# Altium footprint library Project_Vega.PcbLib: 23 footprints (part 1 of 2)
Each footprint in its own frame and in the unit in brackets; x right, y up, seen from the top. Pads: shape width x height; smd on the part's side, far side on the other; paste and mask are expansions set on the pad; w line width, h text height; cw(c..) or ccw(c..) is an arc to the next point about the centre after c.
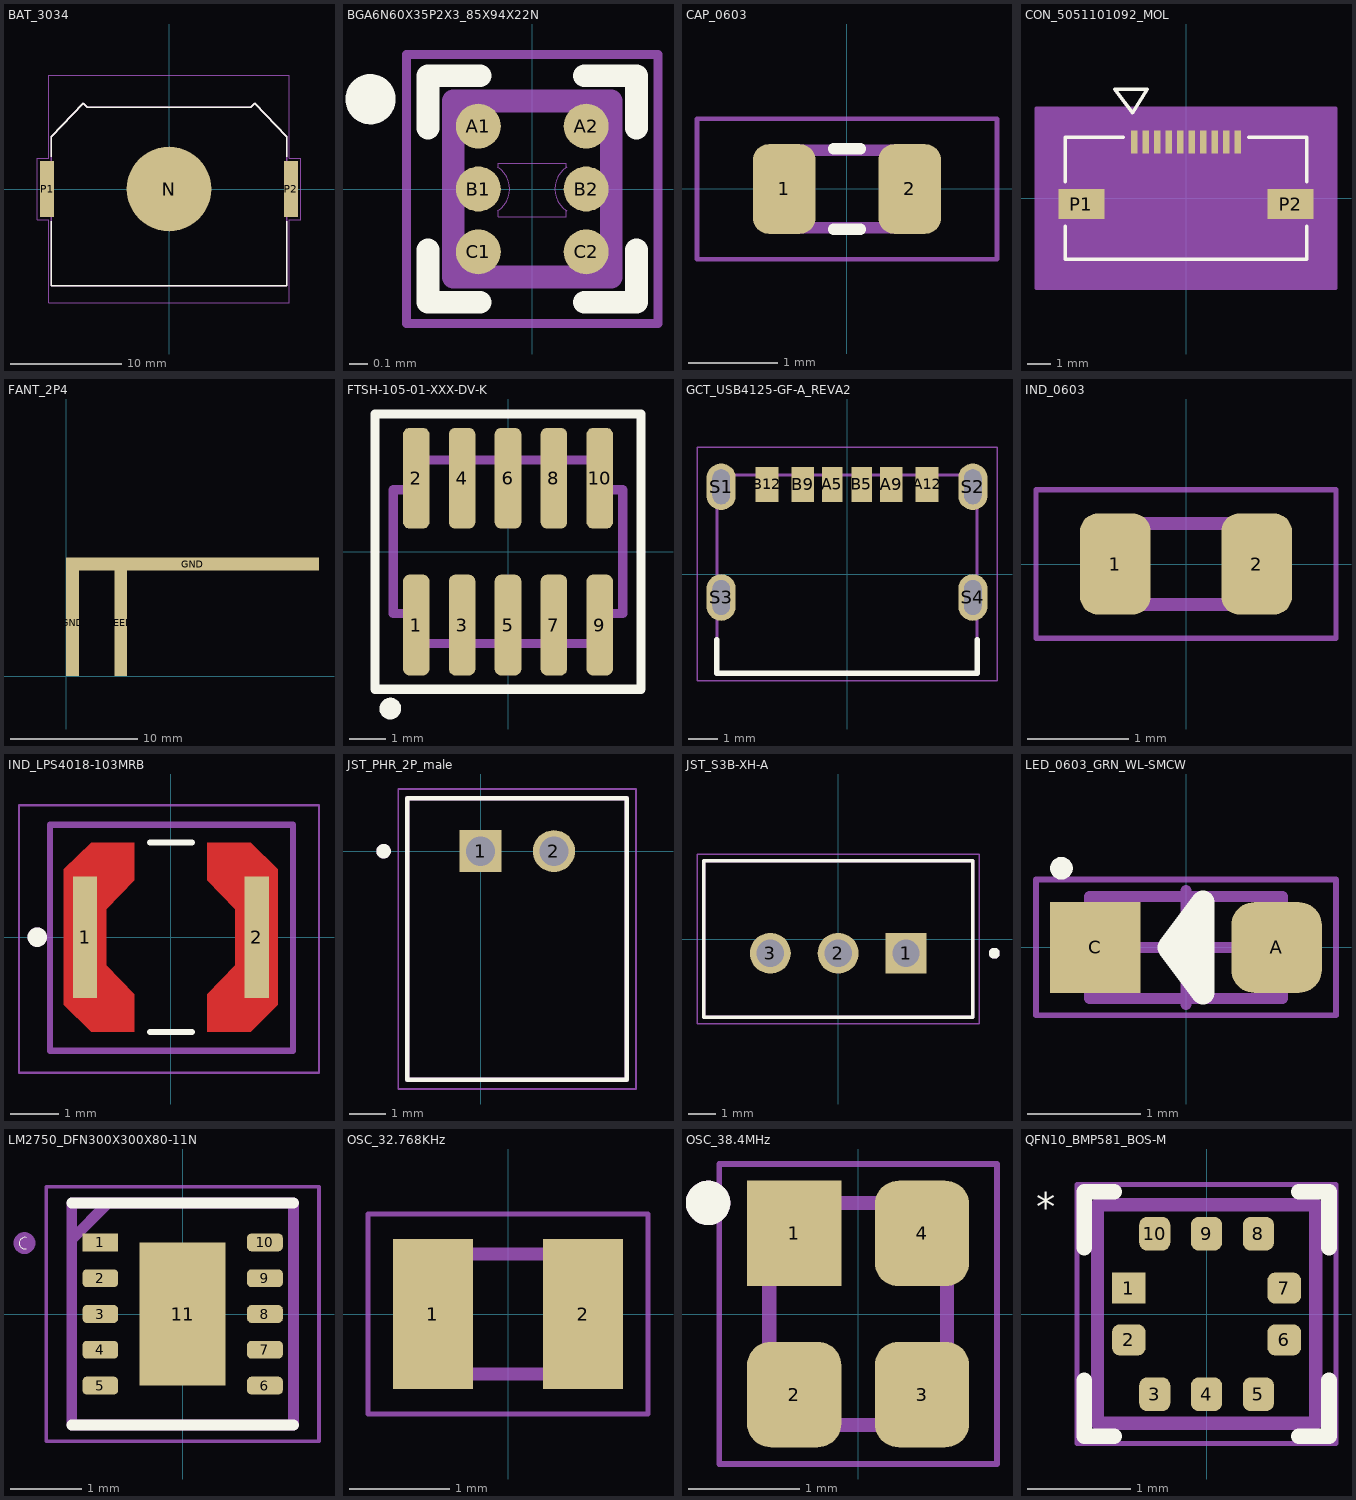
[diagram p0: the footprints below, top view; thin cyan lines are the x and y axes]

## BAT_3034 [mm]
height 4.31
pads (3):
  round 7.62 smd paste-3: N(0,0)
  rect 1.27x5.08 smd: P1(-10.985,0) P2(10.985,0)
Top Overlay:
  lines w0.127: -10.605,-2.9 -10.605,-8.729 10.605,-8.729 10.605,-2.9 ; -10.605,2.9 -10.605,4.723 -7.734,7.741 -7.366,7.391 7.366,7.391 7.734,7.741 10.605,4.723 10.605,2.9
Mechanical 13:
  lines w0.127: -10.605,-8.729 -10.605,4.723 -7.734,7.741 -7.366,7.391 7.366,7.391 7.734,7.741 10.605,4.723 10.605,-8.729 -10.605,-8.729
  text ".Designator" at -7.112,-6.122 h1.52
Mechanical 15:
  lines w0.05: -11.87,-2.79 -11.87,2.79 -10.855,2.79 -10.855,10.25 10.855,10.25 10.855,2.79 11.87,2.79 11.87,-2.79 10.855,-2.79 10.855,-10.25 -10.855,-10.25 -10.855,-2.79 -11.87,-2.79
3D body "3034--3DModel-STEP-630548.STEP": height 4.06, standoff 0, extent -11.62,-8.76 11.62,7.716

## BGA6N60X35P2X3_85X94X22N [mm]
pads (6):
  round 0.25 smd paste-1 mask-0.05: A1(-0.3,0.35) A2(0.3,0.35) B1(-0.3,0) B2(0.3,0) C1(-0.3,-0.35) C2(0.3,-0.35)
Top Overlay:
  circle w0.14: c-0.9,0.5 r0.07
  lines w0.127: -0.58,-0.34 -0.58,-0.63 -0.29,-0.63 ; -0.58,0.34 -0.58,0.63 -0.29,0.63 ; 0.29,-0.63 0.58,-0.63 0.58,-0.34 ; 0.29,0.63 0.58,0.63 0.58,0.34
Top Paste:
  drawing of 6 lines, arcs and shapes, not listed
Mechanical 1:
  lines w0: -0.192,-0.121 ccw(c-0.267,0) -0.192,0.121 ; -0.191,-0.12 -0.191,-0.154 0.191,-0.154 0.191,-0.12 ; -0.191,0.12 -0.191,0.144 0.191,0.144 0.191,0.12 ; 0.192,-0.121 cw(c0.267,0) 0.192,0.121
Mechanical 13:
  lines w0.127: -0.44,-0.49 -0.44,0.49 0.44,0.49 0.44,-0.49 -0.44,-0.49
  text ".Designator" at 0.025,-0.674 h0.15
Mechanical 15:
  lines w0.05: -0.7,-0.75 -0.7,0.75 0.7,0.75 0.7,-0.75 -0.7,-0.75
3D body "step_temp.STEP": height 0.22, standoff -0.01, extent -0.428,-0.473 0.428,0.473

## CAP_0603 [mm] "Ceramic Capacitor 0603"
pads (2):
  rrect50% 0.7x1 smd: 1(-0.7,0) 2(0.7,0)
Top Overlay:
  lines w0.127: -0.15,-0.45 0.15,-0.45 ; -0.15,0.45 0.15,0.45
Mechanical 13:
  lines w0.127: -0.838,-0.432 0.838,-0.432 0.838,0.432 -0.838,0.432 -0.838,-0.419
  text ".Designator" at -0.048,-0.179 h0.51
Mechanical 15:
  lines w0.051: -1.673,-0.783 -1.673,0.783 1.673,0.783 1.673,-0.783 -1.673,-0.783
3D body "step_temp.STEP": height 0.9, standoff 0, extent -0.8,-0.4 0.8,0.4

## CON_5051101092_MOL [mm] "10 Position FFC, FPC Connector Contacts, Bottom 0.020\" (0.50mm) Surface Mount, Right Angle"
pads (12):
  rect 0.3x1 smd paste+0 mask+0.025: 1(-2.25,2.45) 2(-1.75,2.45) 3(-1.25,2.45) 4(-0.75,2.45) 5(-0.25,2.45) 6(0.25,2.45) 7(0.75,2.45) 8(1.25,2.45) 9(1.75,2.45) 10(2.25,2.45)
  rect 2x1.3 smd paste+0 mask+0.025: P1(-4.55,-0.25) P2(4.55,-0.25)
Top Overlay:
  lines w0.152: -5.25,-1.22 -5.25,-2.65 5.25,-2.65 5.25,-1.22 ; -5.25,0.72 -5.25,2.65 -2.72,2.65 ; 2.72,2.65 5.25,2.65 5.25,0.72 ; -3.091,4.736 -1.694,4.736 -2.329,3.72 -3.091,4.736
Mechanical 13:
  lines w0.127: -5.25,-2.65 5.25,-2.65 5.25,2.65 -5.25,2.65 -5.25,-2.65 ; -3.091,4.736 -1.694,4.736 -2.329,3.72 -3.091,4.736
  text ".Designator" at -4.572,-2.159 h1.27
Mechanical 15:
  region: 6.52,3.92 -6.52,3.92 -6.52,-3.92 6.52,-3.92
  pour cut-out: 6.52,3.92 -6.52,3.92 -6.52,-3.92 6.52,-3.92
  lines w0.127: -6.52,-3.92 -6.52,3.92 ; -6.52,-3.92 6.52,-3.92 ; -6.52,-3.92 -6.52,3.92 ; -6.52,-3.92 6.52,-3.92 ; -6.52,3.92 6.52,3.92 ; -6.52,3.92 6.52,3.92 ; 6.52,-3.92 6.52,3.92 ; 6.52,-3.92 6.52,3.92
3D body "5051101092.stp": height 1.88, standoff -0.02, extent -5.25,-2.724 5.25,2.576

## FANT_2P4 [mil]
pads (3):
  rect 40x331 smd paste-1000 mask+4: FEED(169,165.5) GND(20,165.5)
  rect 782x39 smd paste-1000 mask+4: GND(391,346.5)

## FTSH-105-01-XXX-DV-K [mil]
pads (10):
  rrect50% 29x110 smd mask+2: 1(-100,-80) 2(-100,80) 3(-50,-80) 4(-50,80) 5(0,-80) 6(0,80) 7(50,-80) 8(50,80) 9(100,-80) 10(100,80)
Top Overlay:
  lines w10: -145,-150 -145,150 145,150 145,-150 -145,-150
  lines w11.81: -122.39,-171.52 cw(c-128.27,-171.01) -122.37,-171.01
Mechanical 1:
  lines w10: -125,-67.5 -125,67.5 -100,67.5 -100,100 100,100 100,67.5 125,67.5 125,-67.5 100,-67.5 100,-100 -100,-100 -100,-67.5 -125,-67.5
  text ".Designator" at -97.68,-8.48 h19.68
3D body "FTSH-105-01-LM-DV-K.stp": height 240.75, standoff -0.25, extent -124.99,-114.99 125,115

## GCT_USB4125-GF-A_REVA2 [mm]
pads (10):
  rect 0.7x1.2 smd mask+0.051: A5(-0.5,3.08) B5(0.5,3.08)
  rect 0.76x1.2 smd mask+0.051: A9(1.52,3.08) B9(-1.52,3.08)
  rect 0.8x1.2 smd mask+0.051: A12(2.75,3.08) B12(-2.75,3.08)
  oval 1x1.6 hole 0.6 slot 1.2 at 90 deg mask+0: S1(-4.32,3) S2(4.32,3) S3(-4.32,-0.8) S4(4.32,-0.8)
Top Overlay:
  lines w0.2: -4.47,-2.25 -4.47,-3.4 4.47,-3.4 4.47,-2.25
Top Solder:
  drawing of 4 lines, arcs and shapes, not listed
Bottom Solder:
  drawing of 4 lines, arcs and shapes, not listed
Mechanical 1:
  text ".Designator" at -3.322,-2.363 h0.5
Mechanical 13:
  lines w0.1: -4.47,-3.4 4.47,-3.4 4.47,3.4 -4.47,3.4 -4.47,-3.4
Mechanical 15:
  lines w0.05: -5.15,-3.65 5.15,-3.65 5.15,4.35 -5.15,4.35 -5.15,-3.65
3D body "USB4125-GF-A--3DModel-STEP-56544.STEP": height 3.26, standoff -1.25, extent -4.47,-3.45 4.47,3.45

## IND_0603 [mm] "Inductor Package 0603"
pads (2):
  rrect50% 0.7x1 smd: 1(-0.7,0) 2(0.7,0)
Mechanical 13:
  lines w0.127: -0.8,-0.4 -0.8,0.4 0.8,0.4 0.8,-0.4 -0.8,-0.4
  text ".Designator" at -0.152,-0.339 h0.51
Mechanical 15:
  lines w0.05: -1.485,-0.735 1.485,-0.735 1.485,0.735 -1.485,0.735 -1.485,-0.735
3D body "step_temp.STEP": height 0.95, standoff 0, extent -0.8,-0.4 0.8,0.4

## IND_LPS4018-103MRB [mm]
height 1.8
pads (2):
  rect 0.5x2.5 smd paste-2 mask+0: 1(-1.765,0) 2(1.765,0)
Top Layer:
  region: 2.2,1.395 2.2,-1.395 1.64,-1.945 0.75,-1.945 0.75,-1.17 1.33,-0.575 1.33,0.575 0.75,1.17 0.75,1.945 1.64,1.945
  region: -0.75,1.17 -1.33,0.575 -1.33,-0.575 -0.75,-1.17 -0.75,-1.945 -1.64,-1.945 -2.2,-1.395 -2.2,1.395 -1.64,1.945 -0.75,1.945
Top Overlay:
  circle w0.2: c-2.75,0 r0.1
  lines w0.127: -0.43,-1.95 0.43,-1.95 ; -0.43,1.95 0.43,1.95
Top Paste:
  region: 2.2,1.395 2.2,-1.395 1.64,-1.945 0.75,-1.945 0.75,-1.17 1.33,-0.575 1.33,0.575 0.75,1.17 0.75,1.945 1.64,1.945
  region: -0.75,1.17 -1.33,0.575 -1.33,-0.575 -0.75,-1.17 -0.75,-1.945 -1.64,-1.945 -2.2,-1.395 -2.2,1.395 -1.64,1.945 -0.75,1.945
Top Solder:
  region: 2.3,1.437 2.3,-1.437 1.681,-2.045 0.65,-2.045 0.65,-1.129 1.23,-0.534 1.23,0.534 0.65,1.129 0.65,2.045 1.681,2.045
  region: -0.65,1.129 -1.23,0.534 -1.23,-0.534 -0.65,-1.129 -0.65,-2.045 -1.681,-2.045 -2.3,-1.437 -2.3,1.437 -1.681,2.045 -0.65,2.045
Mechanical 13:
  circle w0.2: c-2.75,0 r0.1
  lines w0.127: -2.489,-2.337 -2.489,2.311 2.515,2.311 2.515,-2.337 -2.489,-2.337
  text ".Designator" at -0.279,-0.347 h1.02
Mechanical 15:
  lines w0.05: -3.124,-2.794 -3.124,2.718 3.048,2.718 3.048,-2.794 -3.124,-2.794

## JST_PHR_2P_male [mm]
height 5.25
pads (2):
  rect 1.15x1.15 / inner round 1.15 / far side rect 1.15x1.15 hole 0.8: 1(0,0)
  round 1.15 hole 0.8: 2(2.007,0)
Top Overlay:
  circle w0.2: c-2.65,0 r0.1
  lines w0.127: -2,-6.25 -2,1.45 4,1.45 4,-6.25 -2,-6.25
Mechanical 13:
  circle w0.2: c-2.65,0 r0.1
  lines w0.127: -2,-6.25 -2,1.45 4,1.45 4,-6.25 -2,-6.25
  text ".Designator" at 0.076,-2.794 h0.76
Mechanical 15:
  lines w0.05: -2.25,-6.5 -2.25,1.7 4.25,1.7 4.25,-6.5 -2.25,-6.5
3D body "440055-2.stp": height 4.96, standoff -3.39, extent -1.936,-6.223 4.064,1.477

## JST_S3B-XH-A [mm]
height 7
pads (3):
  rect 1.508x1.508 / inner round 1.508 / far side rect 1.508x1.508 hole 1: 1(2.5,-0.525)
  round 1.508 hole 1: 2(0,-0.525) 3(-2.5,-0.525)
Top Overlay:
  circle w0.2: c5.75,-0.525 r0.1
  lines w0.127: -4.95,-2.875 4.95,-2.875 4.95,2.875 -4.95,2.875 -4.95,-2.875
Mechanical 1:
  text ".Designator" at -0.762,0.762 h1.52
Mechanical 13:
  circle w0.2: c5.75,-0.525 r0.1
  lines w0.127: -4.95,-2.875 4.95,-2.875 4.95,2.875 -4.95,2.875 -4.95,-2.875
Mechanical 15:
  lines w0.05: -5.2,-3.125 5.2,-3.125 5.2,3.125 -5.2,3.125 -5.2,-3.125
3D body "S3B-XH-A.STEP": height 6.1, standoff -3.4, extent -4.95,-2.92 4.95,8.58

## LED_0603_GRN_WL-SMCW [mm] "SODFL, 2-Leads, Body 0.80x1.80mm, IPC Medium Density"
height 0.8
pads (2):
  rrect50% 0.8x0.8 smd: A(0.8,0)
  rect 0.8x0.8 smd: C(-0.8,0)
Top Overlay:
  circle w0.1: c-1.1,0.7 r0.05
  lines w0.2: -0.15,0 0.05,0
  lines w0.205: -0.15,0 0.15,0.4 0.15,-0.4 -0.15,0
Mechanical 13:
  lines w0.1: -0.85,-0.45 0.85,-0.45 0.85,0.45 -0.85,0.45 -0.85,-0.45
  text ".Designator" at -0.723,-0.254 h0.5
Mechanical 15:
  lines w0.05: -1.325,-0.6 1.325,-0.6 1.325,0.6 -1.325,0.6 -1.325,-0.6
  lines w0.1: -0.5,0 0.5,0 ; 0,-0.5 0,0.5
3D body "LED_0603_WURTH_WL-SMCW_base.step": height 0.65, standoff 0.01, extent -0.8,-0.4 0.8,0.4
3D body "LED_0603_WURTH_WL-SMCW_lens.step": height 0.71, standoff 0.31, extent -0.55,-0.4 0.55,0.4

## LM2750_DFN300X300X80-11N [mm]
pads (11):
  rect 0.5x0.25 smd: 1(-1.15,1)
  rrect50% 0.5x0.25 smd: 2(-1.15,0.5) 3(-1.15,0) 4(-1.15,-0.5) 5(-1.15,-1) 6(1.15,-1) 7(1.15,-0.5) 8(1.15,0) 9(1.15,0.5) 10(1.15,1)
  rect 1.2x2 smd: 11(0,0)
Top Overlay:
  lines w0: -2.184,0.914 cw(c-2.203,0.991) -2.184,1.067
  lines w0.152: -1.549,-1.549 1.549,-1.549 ; -1.549,1.549 1.549,1.549
Mechanical 13:
  lines w0.152: -1.549,1.041 -1.041,1.549 ; -2.286,0.991 ccw(c-2.21,0.991) -2.134,0.991 ccw(c-2.21,0.991) -2.286,0.991 ; -1.549,-1.549 1.549,-1.549 1.549,1.549 -1.549,1.549 -1.549,-1.549
  text ".Designator" at -0.025,0.017 h0.51
Mechanical 15:
  lines w0.05: -1.905,-1.778 1.905,-1.778 1.905,1.778 -1.905,1.778 -1.905,-1.778
3D body "LM2750SD-5.0_NOPB.STEP": height 0.8, standoff 0, extent -1.5,-1.5 1.5,1.5

## OSC_32.768KHz [mm] "Tuning Fork Crystal 32.768kHz in 1.2 x 2.0mm package"
height 0.6
pads (2):
  rect 0.8x1.5 smd: 1(-0.75,0) 2(0.75,0)
Mechanical 13:
  lines w0.127: -1,-0.6 -1,0.6 1,0.6 1,-0.6 -1,-0.6
  text ".Designator" at -0.127,-0.136 h0.51
Mechanical 15:
  lines w0.05: -1.4,-1 -1.4,1 1.4,1 1.4,-1 -1.4,-1
3D body "step_temp.STEP": height 0.6, standoff 0, extent -1,-0.6 1,0.6

## OSC_38.4MHz [mm] "38.4 MHz ±10ppm Crystal 10pF 40 Ohms 4-SMD, No Lead"
height 0.7
pads (4):
  rect 0.85x0.95 smd: 1(-0.575,0.725)
  rrect50% 0.85x0.95 smd: 2(-0.575,-0.725) 3(0.575,-0.725) 4(0.575,0.725)
Top Overlay:
  circle w0.2: c-1.35,1 r0.1
Mechanical 13:
  circle w0.2: c-1.35,1 r0.1
  lines w0.127: -0.8,-1 -0.8,1 0.8,1 0.8,-1 -0.8,-1
  text ".Designator" at 1.024,-0.027 h0.51
Mechanical 15:
  lines w0.05: -1.25,-1.35 -1.25,1.35 1.25,1.35 1.25,-1.35 -1.25,-1.35
3D body "XRCGB38M400F2P00R0.STEP": height 0.7, standoff 0, extent -0.796,-0.995 0.804,1.005

## QFN10_BMP581_BOS-M [mm]
pads (10):
  rect 0.325x0.3 smd paste+0 mask+0.05: 1(-0.75,0.25)
  rrect50% 0.325x0.3 smd paste+0 mask+0.05: 2(-0.75,-0.25) 6(0.75,-0.25) 7(0.75,0.25)
  rrect50% 0.3x0.325 smd paste+0 mask+0.05: 3(-0.5,-0.775) 4(0,-0.775) 5(0.5,-0.775) 8(0.5,0.775) 9(0,0.775) 10(-0.5,0.775)
Top Overlay:
  lines w0.152: -1.181,-0.643 -1.181,-1.181 -0.893,-1.181 ; -1.181,0.643 -1.181,1.181 -0.893,1.181 ; 0.893,-1.181 1.181,-1.181 1.181,-0.643 ; 0.893,1.181 1.181,1.181 1.181,0.643
  text "*" at -1.646,0.903 h0.27
Mechanical 13:
  lines w0.127: -1.054,-1.054 -1.054,1.054 1.054,1.054 1.054,-1.054 -1.054,-1.054
  text ".Designator" at -0.229,-0.136 h0.51
Mechanical 15:
  lines w0.05: -1.25,-1.25 1.25,-1.25 1.25,1.25 -1.25,1.25 -1.25,-1.25
3D body "QFN10_BMP581_BOS.step": height 0.81, standoff 0, extent -1.054,-1.054 1.054,1.054